# Altium footprint library wzy.PcbLib: 28 footprints (part 2 of 2)
Each footprint in its own frame and in the unit in brackets; x right, y up, seen from the top. Pads: shape width x height; smd on the part's side, far side on the other; paste and mask are expansions set on the pad; w line width, h text height; cw(c..) or ccw(c..) is an arc to the next point about the centre after c.
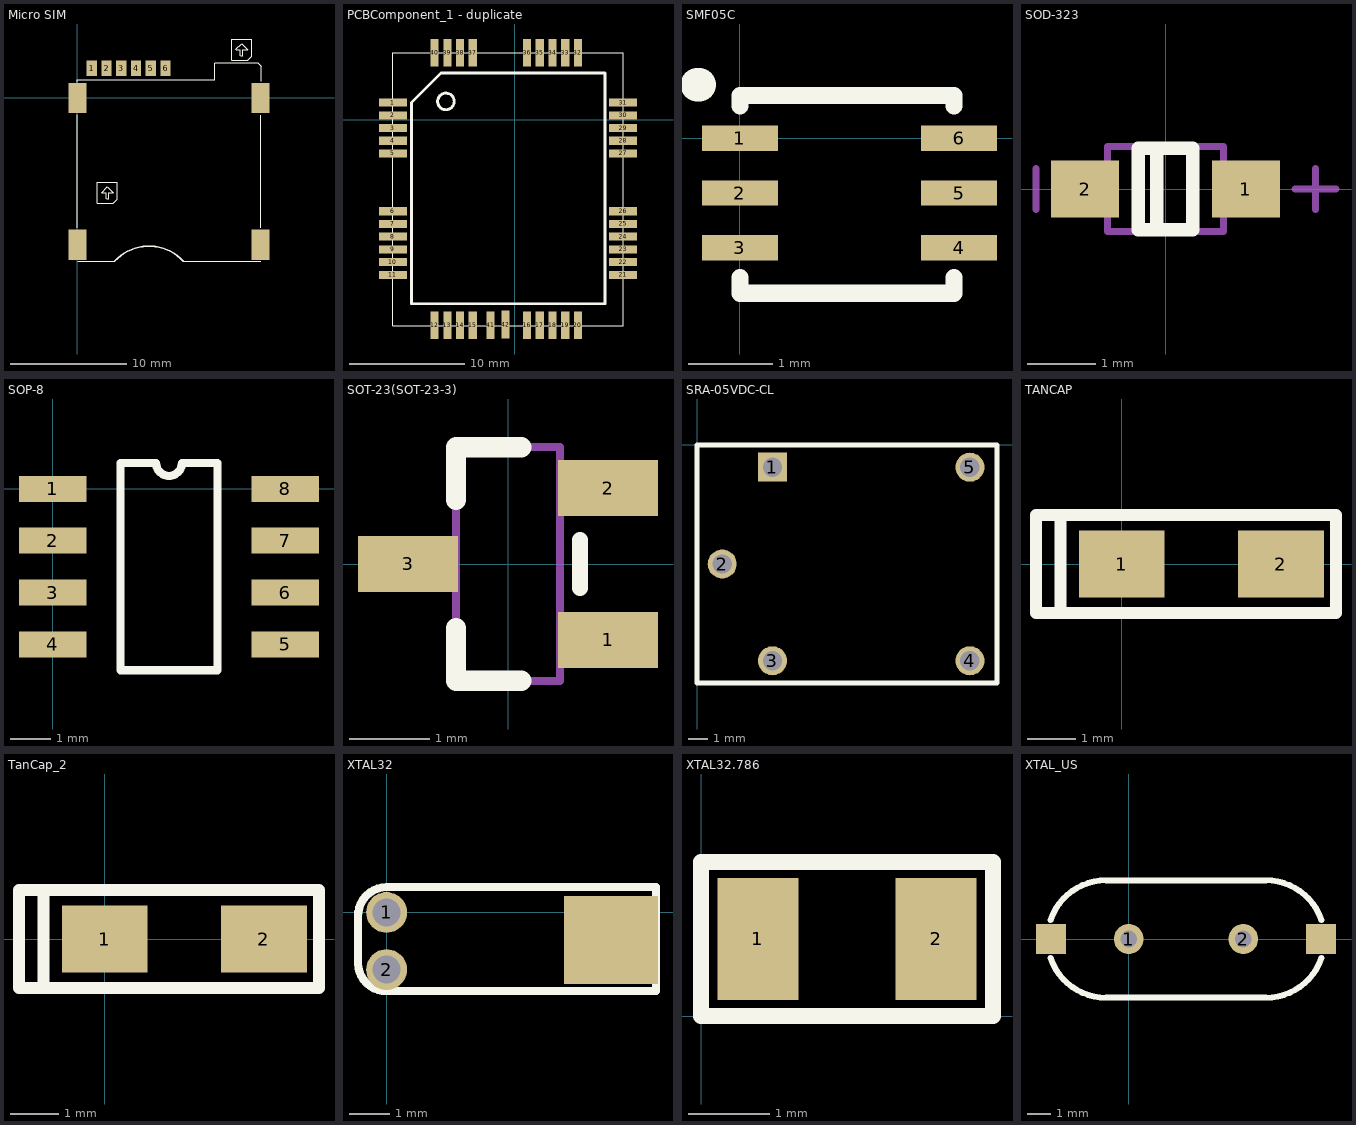
[diagram p1: the footprints below, top view; thin cyan lines are the x and y axes]

## Micro SIM [mm] "6P 自?"
pads (10):
  rect 0.9x1.34 smd: 1(1.24,2.565) 2(2.51,2.565) 3(3.78,2.565) 4(5.05,2.565) 5(6.32,2.565) 6(7.59,2.565)
  rect 1.56x2.61 smd: ""(0,-12.63) ""(0,0) ""(15.78,-12.63) ""(15.78,0)
Top Overlay:
  lines w0.1: 0,-11.176 0,-1.448 ; 0,1.346 0,1.575 1.723,1.575 11.832,1.575 11.832,2.769 11.832,2.993 11.857,3.018 15.54,3.018 15.82,2.739 15.82,2.515 15.82,1.448 ; 0.046,-14.064 3.225,-14.064 ; 2.095,-8.141 2.591,-7.645 3.099,-8.153 2.692,-8.153 ; 2.108,-8.153 2.489,-8.153 2.489,-8.661 ; 2.515,-8.661 2.692,-8.661 2.692,-8.179 ; 3.454,-8.585 3.454,-7.239 1.727,-7.239 1.727,-9.068 3.099,-9.068 3.454,-8.712 3.454,-8.357 ; 9.113,-14.046 15.799,-14.046 ; 13.652,4.178 14.148,4.674 14.656,4.166 14.249,4.166 ; 13.665,4.166 14.046,4.166 14.046,3.658 ; 14.072,3.658 14.249,3.658 14.249,4.14 ; 15.011,3.734 15.011,5.08 13.284,5.08 13.284,3.251 14.656,3.251 15.011,3.607 15.011,3.962 ; 15.799,-11.176 15.799,-1.473
  lines w0.14: 3.225,-14.041 cw(c6.167,-16.751) 9.113,-14.046

## PCBComponent_1 - duplicate [mm]
pads (42):
  rect 2.4x0.7 smd: 1(-10.55,1.5) 2(-10.55,0.4) 3(-10.55,-0.7) 4(-10.55,-1.8) 5(-10.55,-2.9) 6(-10.55,-7.9) 7(-10.55,-9) 8(-10.55,-10.1) 9(-10.55,-11.2) 10(-10.55,-12.3) 11(-10.55,-13.4) 21(9.35,-13.4) 22(9.35,-12.3) 23(9.35,-11.2) 24(9.35,-10.1) 25(9.35,-9) 26(9.35,-7.9) 27(9.35,-2.9) 28(9.35,-1.8) 29(9.35,-0.7) 30(9.35,0.4) 31(9.35,1.5)
  rect 0.7x2.4 smd: 12(-6.95,-17.75) 13(-5.85,-17.75) 14(-4.75,-17.75) 15(-3.65,-17.75) 16(1.05,-17.75) 17(2.15,-17.75) 18(3.25,-17.75) 19(4.35,-17.75) 20(5.45,-17.75) 32(5.45,5.8) 33(4.35,5.8) 34(3.25,5.8) 35(2.15,5.8) 36(1.05,5.8) 37(-3.65,5.8) 38(-4.75,5.8) 39(-5.85,5.8) 40(-6.95,5.8) 41(-2.1,-17.75) 42(-0.8,-17.7)
Top Overlay:
  circle w0.254: c-5.968,1.6 r0.718
  lines w0.1: -10.55,-17.8 -10.55,5.8 9.25,5.8 9.35,5.8 9.35,-17.8 9.25,-17.8 -10.55,-17.8
  lines w0.254: -8.95,-15.9 -8.95,1.5 -6.4,4.05 7.8,4.05 7.8,-15.9 -8.95,-15.9

## SMF05C [mm] "SOT-363"
pads (6):
  rect 0.9x0.3 smd: 1(0,0) 2(0,-0.65) 3(0,-1.3) 4(2.6,-1.3) 5(2.6,-0.65) 6(2.6,0)
Top Overlay:
  lines w0.203: 0,-1.651 0,-1.838 2.54,-1.838 2.54,-1.651 ; 0,0.381 0,0.508 2.54,0.508 2.54,0.381
  lines w0.4: -0.508,0.635 -0.483,0.635

## SOD-323 [mm]
pads (2):
  rect 1x0.83 smd: 1(1.18,0) 2(-1.18,0)
Top Overlay:
  lines w0.2: -0.13,-0.6 -0.13,0.6 ; -0.4,-0.6 -0.4,0.6 0.4,0.6 0.4,-0.6 -0.4,-0.6
Mechanical 13:
  lines w0.1: -0.85,-0.625 -0.85,0.625 0.85,0.625 0.85,-0.625 -0.85,-0.625
Mechanical 15:
  lines w0.1: -1.9,-0.3 -1.9,0.3 ; 1.9,0 2.5,0 ; 2.2,-0.3 2.2,0.3
3D body "SOD323.STEP": height 1.1, standoff 0, extent -1.35,-0.625 1.35,0.625

## SOP-8 [mil]
pads (8):
  rect 65x25 smd: 1(0,0) 2(0,-50) 3(0,-100) 4(0,-150) 5(224.41,-150) 6(224.41,-100) 7(224.41,-50) 8(224.41,0)
Top Overlay:
  lines w7.87: 65.37,-175 159.03,-175 159.03,25 124.7,25 cw(c112.2,25) 99.7,25 65.37,25 65.37,-175

## SOT-23(SOT-23-3) [mm]
pads (3):
  rect 1.25x0.7 smd: 1(1.25,-0.95) 2(1.25,0.95) 3(-1.25,0)
Top Overlay:
  lines w0.2: 0.9,-0.3 0.9,0.3
  lines w0.254: -0.65,-0.8 -0.65,-1.46 0.165,-1.46 ; 0.165,1.46 -0.65,1.46 ; -0.65,0.8 -0.65,1.46 ; -0.65,0.8 -0.65,1.46 ; -0.65,0.8 -0.65,1.46
Mechanical 13:
  lines w0.1: -0.65,-1.46 -0.65,1.46 ; -0.65,-1.46 0.65,-1.46 ; -0.65,-1.46 0.65,-1.46 ; -0.65,-1.46 -0.65,1.46 ; -0.65,-1.46 0.65,-1.46 ; -0.65,-1.46 -0.65,1.46 ; -0.65,1.46 0.65,1.46 ; -0.65,1.46 0.65,1.46 ; -0.65,1.46 0.65,1.46 ; 0.65,-1.46 0.65,1.46 ; 0.65,-1.46 0.65,1.46 ; 0.65,-1.46 0.65,1.46
3D body "SOT-23.step": height 1.3, standoff 0, extent -1.5,-1.5 1.5,1.5

## SRA-05VDC-CL [mm]
pads (5):
  rect 1.5x1.5 hole 1: 1(3.9,-1.15)
  round 1.5 hole 1: 2(1.302,-6.15) 3(3.9,-11.15) 4(14.1,-11.15) 5(14.1,-1.15)
Top Overlay:
  lines w0.254: 0,-12.3 15.5,-12.3 15.5,0 0,0 0,-12.3

## TANCAP [mil]
pads (2):
  rect 70x55 smd: 1(0,0) 2(130,0)
Top Overlay:
  lines w10: -50,-35 -50,35 ; -70,-40 175,-40 175,40 -70,40 -70,-40

## TanCap_2 [mil]
pads (2):
  rect 70x55 smd: 1(0,0) 2(130,0)
Top Overlay:
  lines w10: -50,-35 -50,35 ; -70,-40 175,-40 175,40 -70,40 -70,-40

## XTAL32 [mil]
pads (3):
  round 40 hole 27.56: 1(0,0) 2(0,-56)
  rect 92.13x86 smd: ""(220,-27)
Top Overlay:
  lines w8: -28,-50 ccw(c-0.5,-49.5) 0,-77 264,-77 264,25 0,25 ccw(c0.5,-3.5) -28,-4 -28,-50

## XTAL32.786 [mm]
pads (2):
  rect 1x1.5 smd: 1(0.7,0.95) 2(2.9,0.95)
Top Overlay:
  lines w0.2: 0,0 0,1.9 3.6,1.9 3.6,0 0,0

## XTAL_US [mil]
pads (4):
  round 50 hole 28: 1(0,0) 2(192.13,0)
  rect 50x50 smd: ""(-130.32,0) ""(322.44,0)
Top Overlay:
  lines w10: -130.92,-31.85 ccw(c-37.79,0) -37.79,-98.42 ; -130.92,31.85 cw(c-37.79,0) -37.79,98.43 ; -38,98.42 229.92,98.43 cw(c229.92,0) 323.05,31.85 ; -37.8,-98.43 229.92,-98.42 ccw(c229.92,0) 323.05,-31.85